# Altium schematic symbol library 3.3V Regulator.SchLib: 1 symbol
Pins are listed as number, name and electrical type; pins without a type are passive.

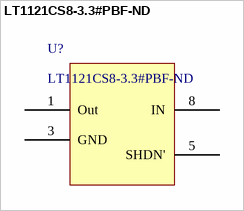
[diagram p0: symbol LT1121CS8-3.3#PBF-ND]

## LT1121CS8-3.3#PBF-ND
designator U?
3.3V Micropower Low Dropout Regulator with Shutdown
footprint SOT230P700X180-4N (SOT223, 4-Leads, Body 6.7x7.3mm (max), Pitch 2.30mm, IPC Medium Density)
pins: 1 Out, 3 GND, 5 SHDN', 8 IN